# Altium footprint library crazyflie-header.PcbLib: 1 footprints
Each footprint in its own frame and in the unit in brackets; x right, y up, seen from the top. Pads: shape width x height; smd on the part's side, far side on the other; paste and mask are expansions set on the pad; w line width, h text height; cw(c..) or ccw(c..) is an arc to the next point about the centre after c.
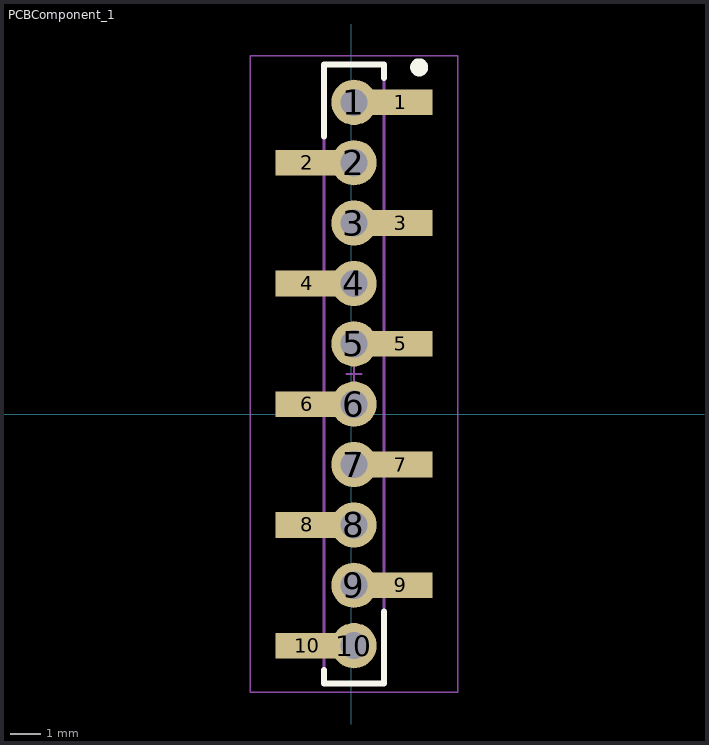
[diagram p0: the footprint, top view; thin cyan lines are the x and y axes]

## PCBComponent_1 [mm]
pads (20):
  round 1.5 hole 0.9: 1(0.098,10.332) 2(0.098,8.332) 3(0.098,6.332) 4(0.098,4.332) 5(0.098,2.332) 6(0.098,0.332) 7(0.098,-1.668) 8(0.098,-3.668) 9(0.098,-5.668) 10(0.098,-7.668)
  rect 2.1x0.85 smd: 1(1.648,10.332) 2(-1.452,8.332) 3(1.648,6.332) 4(-1.452,4.332) 5(1.648,2.332) 6(-1.452,0.332) 7(1.648,-1.668) 8(-1.452,-3.668) 9(1.648,-5.668) 10(-1.452,-7.668)
Top Overlay:
  circle w0.3: c2.257,11.492 r0.15
  lines w0.2: -0.902,-8.468 -0.902,-8.918 1.098,-8.918 1.098,-6.542 ; -0.902,9.206 -0.902,11.582 1.098,11.582 1.098,11.132
Mechanical 12:
  lines w0.1: -0.902,-8.918 -0.902,11.582 1.098,11.582 1.098,-8.918 -0.902,-8.918
Top Courtyard:
  lines w0.05: -0.156,1.332 0.352,1.332 ; 0.098,1.078 0.098,1.586 ; -3.331,-9.209 -3.331,11.873 3.527,11.873 3.527,-9.209 -3.331,-9.209
3D body: height 3, standoff 0, extent -0.902,-8.918 1.098,11.582